# Altium footprint library RDS-10S-74365-D.PcbLib: 1 footprints
Each footprint in its own frame and in the unit in brackets; x right, y up, seen from the top. Pads: shape width x height; smd on the part's side, far side on the other; paste and mask are expansions set on the pad; w line width, h text height; cw(c..) or ccw(c..) is an arc to the next point about the centre after c.
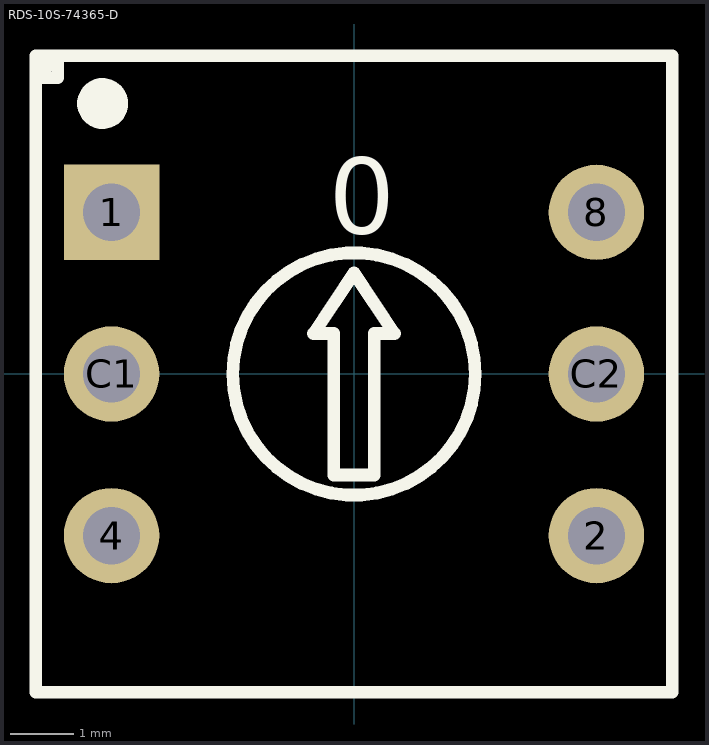
[diagram p0: the footprint, top view; thin cyan lines are the x and y axes]

## RDS-10S-74365-D [mm] "Rotary DIP Switch"
pads (6):
  rect 1.5x1.5 hole 0.9: 1(-3.81,2.54)
  round 1.5 hole 0.9: 2(3.81,-2.54) 4(-3.81,-2.54) 8(3.81,2.54) C1(-3.81,0) C2(3.81,0)
Top Overlay:
  circle w0.4: c-3.95,4.25 r0.2
  circle w0.2: c0,0 r1.905
  lines w0.2: -5,4.657 -4.657,4.657 -4.657,5 -5,4.657 ; -5,4.657 -5,5 5,5 5,-5 -5,-5 -5,4.657 ; -0.635,0.635 0,1.587 0.635,0.635 0.317,0.635 0.318,-1.588 -0.318,-1.588 -0.317,0.635 -0.635,0.635
  text "0" at -0.4,2.2 h1.2
3D body "RDS-10S-74365-D.step": height 3.7, standoff -3.45, extent -3.935,-3.75 3.935,3.75